# EAGLE library part DCP3601CDMR (library DCP3601CDMR)
Switching Voltage Regulators 36 V, 1 A synchronous step-down converter in SOT23-6L Source: Datasheet <https://www.st.com/resource/en/datasheet/dcp3601.pdf>
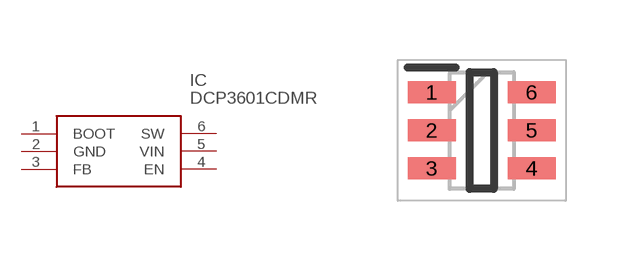
[diagram p0: symbol with the pads of SOT95P280X125-6N; footprint SOT95P280X125-6N]

Designator prefix IC

## DCP3601CDMR (Description: Switching Voltage Regulators 36 V, 1 A synchronous step-down converter in SOT23-6L; Height: 1.25mm; Manufacturer_Name: STMicroelectronics; Manufacturer_Part_Number: DCP3601CDMR; Mouser_Part_Number: 511-DCP3601CDMR; Mouser_Price-Stock: https://www.mouser.co.uk/ProductDetail/STMicroelectronics/DCP3601CDMR?qs=7%2F6SraaimPTFznHqEkOiQg%3D%3D)  [SOT95P280X125-6N]
1  BOOT
2  GND
3  FB
4  EN
5  VIN
6  SW

## Footprint SOT95P280X125-6N (pad centres in mm)
SOT23-6L mechanical data-
smd 1.2 x 0.55: 1 -1.25,0.95; 2 -1.25,0; 3 -1.25,-0.95; 4 1.25,-0.95; 5 1.25,0; 6 1.25,0.95